# Altium schematic symbol library DA2034.Schlib: 1 symbol
Pins are listed as number, name and electrical type; pins without a type are passive.

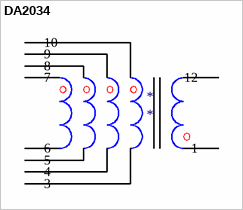
[diagram p0: symbol DA2034]

## DA2034
designator *
Audio Transformers / Signal Transformers DA2032 Cap Chrgr For Linear LT3750/51
pins: 1, 3, 4, 5, 6, 7, 8, 9, 10, 12